# EAGLE library part LM324 (library angrypig7-IC)
OP AMP
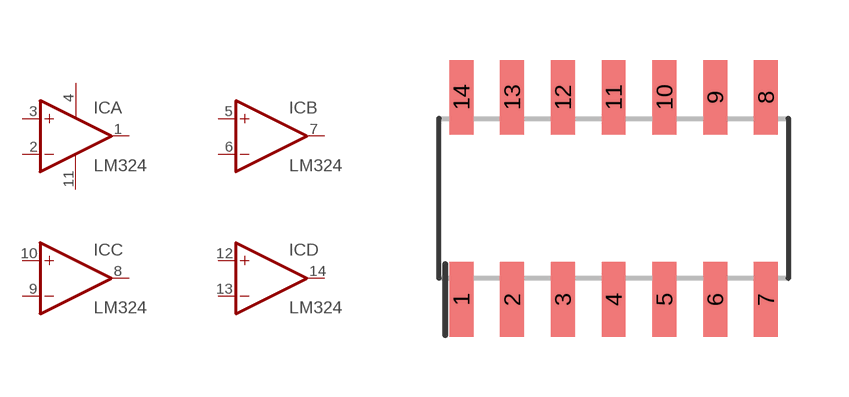
[diagram p2: symbol with the pads of SOIC-14_150MIL; footprint SOIC-14_150MIL]

Designator prefix IC; gates B=OPAMP C=OPAMP D=OPAMP A=OPAMP_PWR

## LM324  [SOIC-14_150MIL]
1  A:OUT  out
2  A:-IN  in
3  A:+IN  in
4  A:VCC+  pwr
5  B:+IN  in
6  B:-IN  in
7  B:OUT  out
8  C:OUT  out
9  C:-IN  in
10  C:+IN  in
11  A:VCC-  pwr
12  D:+IN  in
13  D:-IN  in
14  D:OUT  out

## Footprint SOIC-14_150MIL (pad centres in mm)
14-SOIC, 1.27 mm pitch, 6.10 mm span, 8.65 X 3.90 X 1.75 mm body 14-pin SOIC package with 1.27 mm pitch, 6.10 mm span with body size 8.65 X 3.90 X 1.75 mm
smd 0.599 x 1.869: 1 -3.81,-2.53; 2 -2.54,-2.53; 3 -1.27,-2.53; 4 0,-2.53; 5 1.27,-2.53; 6 2.54,-2.53; 7 3.81,-2.53; 8 3.81,2.53; 9 2.54,2.53; 10 1.27,2.53; 11 0,2.53; 12 -1.27,2.53; 13 -2.54,2.53; 14 -3.81,2.53